# EAGLE library part CS8190ENF16G (library ON Semiconductor_By_element14_Batch_1)
Precision Air-Core Tach/Speedo Driver
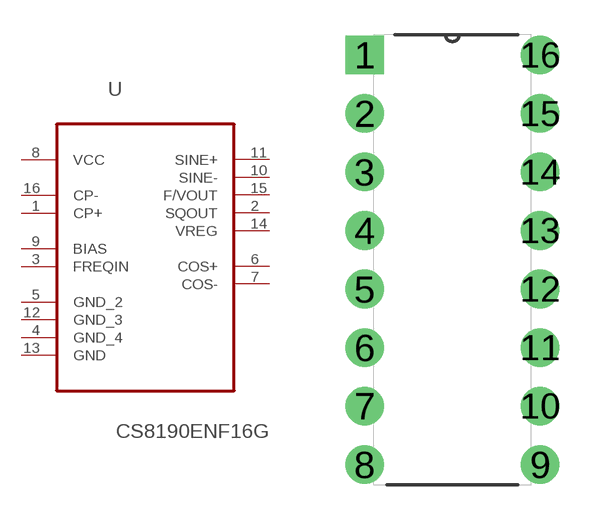
[diagram p23: symbol with the pads of DIP254P762X444-16; footprint DIP254P762X444-16]

Designator prefix U

## CS8190ENF16G (MPN: CS8190ENF16G; OC_FARNELL: 1568827; OC_NEWARK: 27M2306; P1I: o; PACKAGE: PDIP-16; SUPPLIER: On semiconductors)  [DIP254P762X444-16]
1  CP+  in
2  SQOUT  out
3  FREQIN  in
4  GND_4  pas
5  GND_2  pas
6  COS+  out
7  COS-  out
8  VCC  pwr
9  BIAS  pas
10  SINE-  out
11  SINE+  out
12  GND_3  pas
13  GND  pas
14  VREG  out
15  F/VOUT  out
16  CP-  in

## Footprint DIP254P762X444-16 (pad centres in mm)
drill 1.118 square: 1 -7.62,17.78
drill 1.118: 2 -7.62,15.24; 3 -7.62,12.7; 4 -7.62,10.16; 5 -7.62,7.62; 6 -7.62,5.08; 7 -7.62,2.54; 8 -7.62,0; 9 0,0; 10 0,2.54; 11 0,5.08; 12 0,7.62; 13 0,10.16; 14 0,12.7; 15 0,15.24; 16 0,17.78